# Altium schematic symbol library SCH - RF - SHIELD - EMI FRAME.SchLib: 1 symbol
Pins are listed as number, name and electrical type; pins without a type are passive.

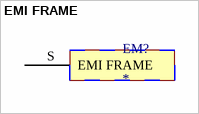
[diagram p0: symbol EMI FRAME]

## EMI FRAME
designator EM?
pins: S EMI FRAME